# Altium schematic symbol library Schlib1.SchLib: 5 symbols
Pins are listed as number, name and electrical type; pins without a type are passive.

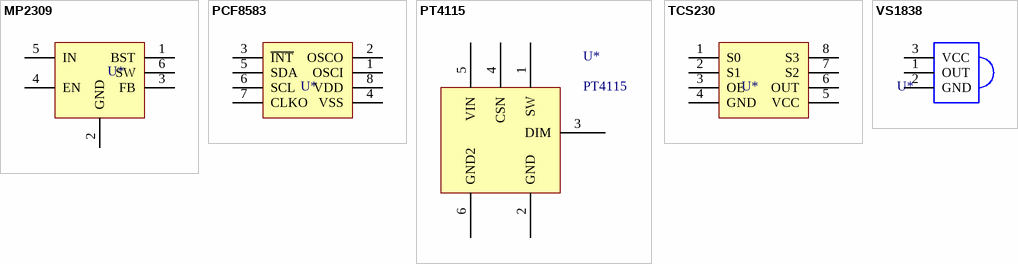
[diagram p0: symbols MP2309 to VS1838]

## MP2309
designator U*  (value not drawn)
pins: 1 BST, 2 GND, 3 FB, 4 EN, 5 IN, 6 SW

## PCF8583
designator U*, comment Real Time  (value not drawn)
pins: 1 OSCI, 2 OSCO, 3 ~{INT}, 4 VSS, 5 SDA, 6 SCL, 7 CLKO, 8 VDD

## PT4115
designator U*
LED Driver
pins: 1 SW, 2 GND (power), 3 DIM, 4 CSN, 5 VIN, 6 GND2 (power)

## TCS230
designator U*, comment Color sensor  (value not drawn)
pins: 1 S0, 2 S1, 3 OE, 4 GND, 5 VCC, 6 OUT, 7 S2, 8 S3

## VS1838
designator U*, comment Infrared In-VS1838  (value not drawn)
Infrared In
pins: 1 OUT, 2 GND, 3 VCC